# EAGLE library part PIC16F18313 (library MCE_Microcontroladores)
PIC16F18313
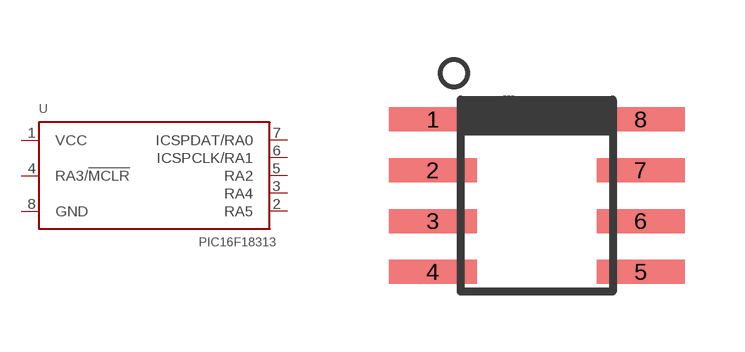
[diagram p11: symbol with the pads of SOIC8; footprint SOIC8]

Designator prefix U

## PIC16F18313  [SOIC8]
1  VCC  pwr
2  RA5
3  RA4
4  RA3/!MCLR
5  RA2
6  ICSPCLK/RA1
7  ICSPDAT/RA0
8  GND  pwr

## Footprint SOIC8 (pad centres in mm)
Small Outline Narrow Plastic Gull Wing 150-mil body, package type SN
smd 2.2 x 0.6: 1 -2.6,1.905; 2 -2.6,0.635; 3 -2.6,-0.635; 4 -2.6,-1.905; 5 2.6,-1.905; 6 2.6,-0.635; 7 2.6,0.635; 8 2.6,1.905